# Altium integrated library TI Amplifiers and Linear Instrumentation Amplifier.IntLib: 274 symbols (part 1 of 10)
Pins are listed as number, name and electrical type; pins without a type are passive.

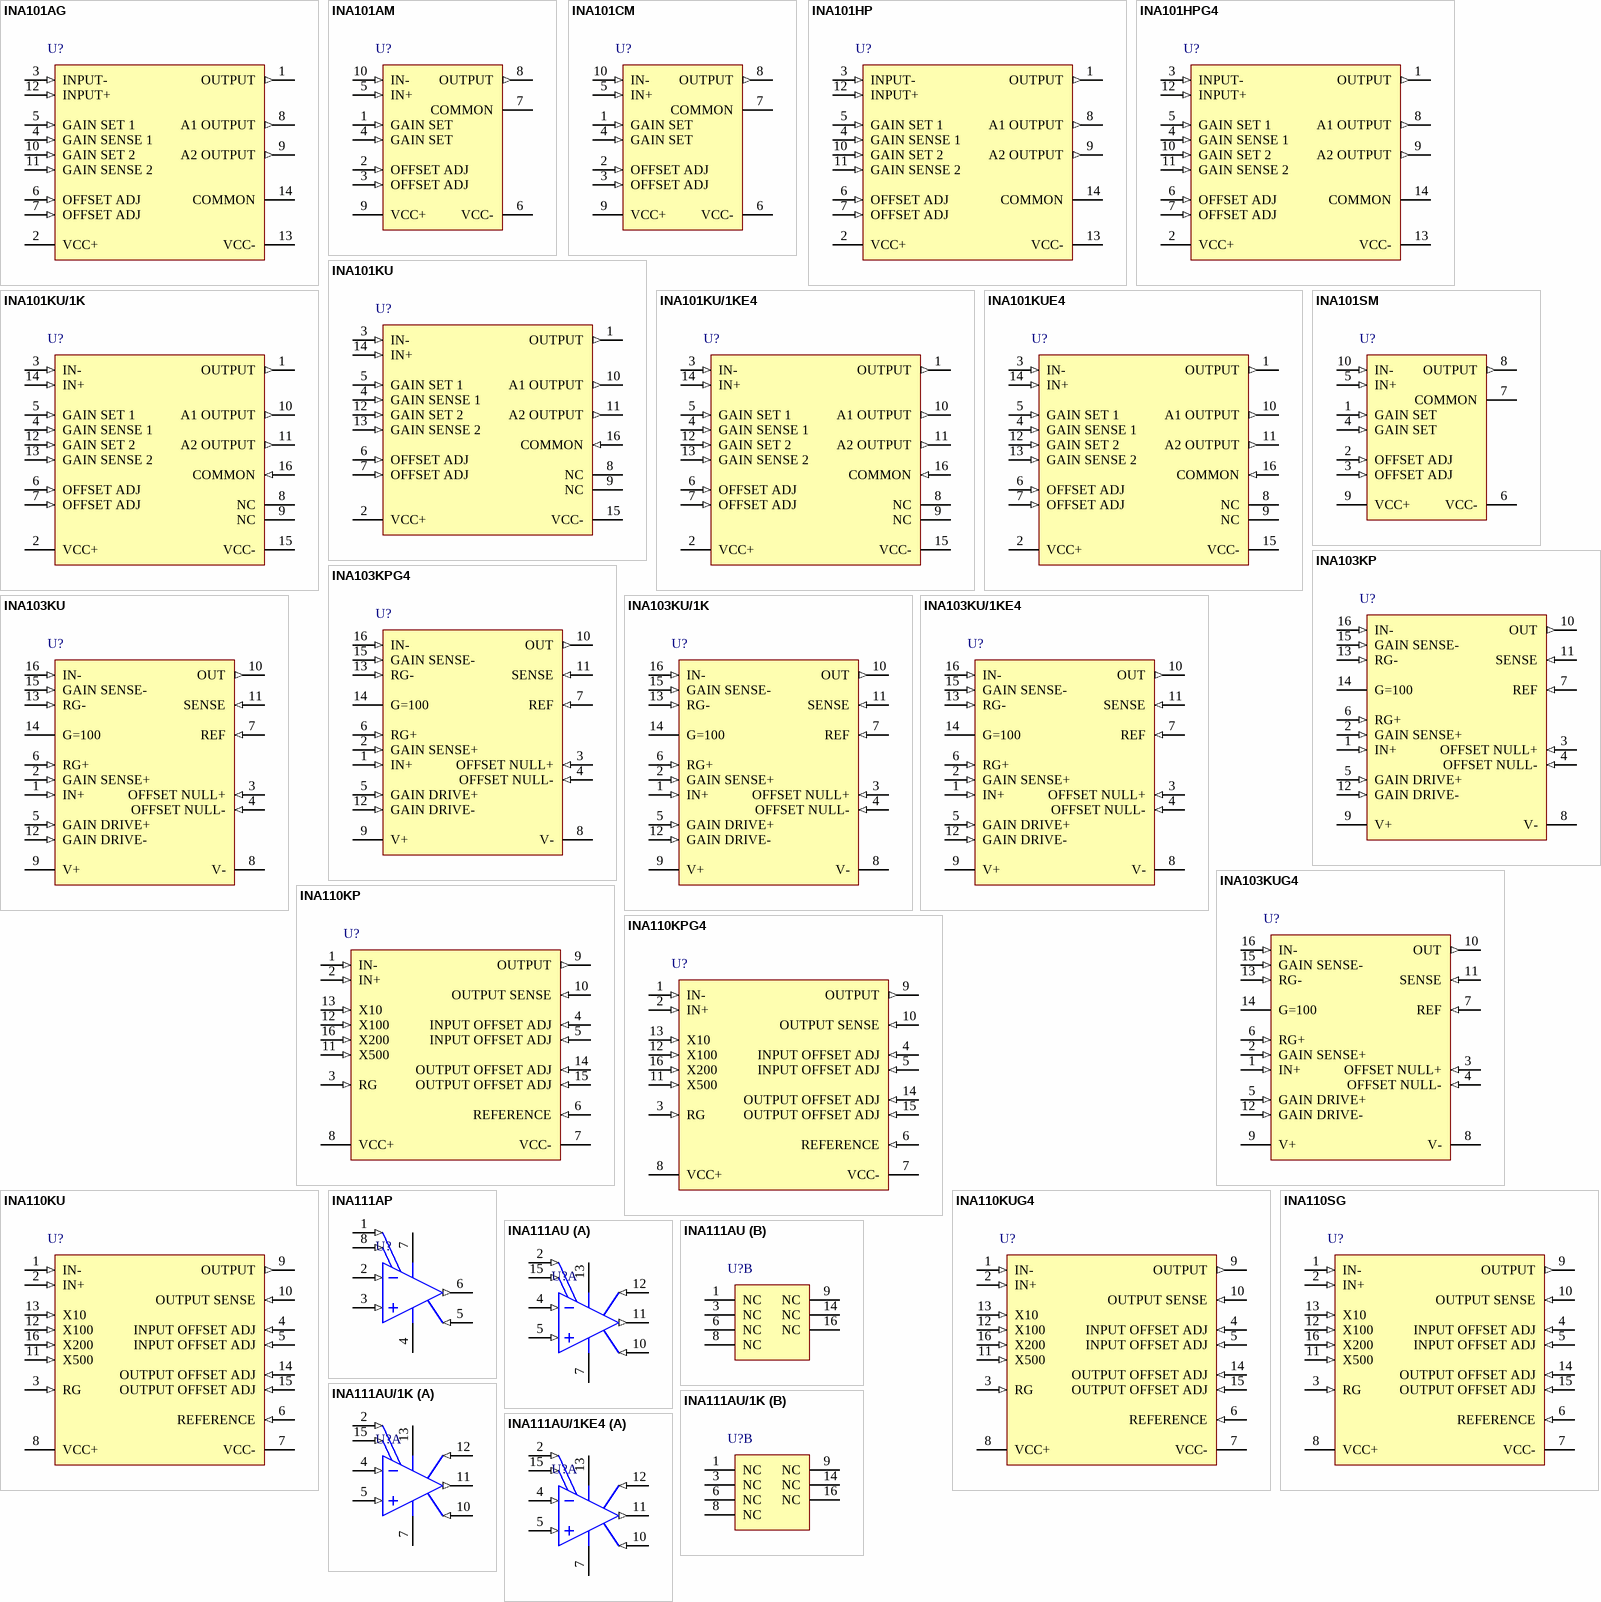
[diagram p0: symbols INA101AG to INA111AU/1KE4]

## INA101AG
designator U?
Very High Accuracy Instrumentation Amplifier, -55 to 125 degC, 14-pin DIP (JD14), Green (RoHS & no Sb/Br); Manufacturer: Texas Instruments; PartNumber: INA101AG; CMRR(Min)(dB): 106; Gain(V/V): 1 to 1000; Input Bias Current (+/-)(Max)(nA): 30; Noise at 1kHz(Typ)(nV/rt(Hz)): 13; Non-Linearity (+/-)(Max)(%): 0.005; Number of Channels: 1; Quiescent Current (+/-)(Typ)(mA): 6.7; SubFamily: Dual Supply; Vs(Max)(V): 40; Vs(Min)(V): 10; DatasheetVersion: SBOS133; PackageVersion: 4040086-3/F, 07/2003; PackageReference: JD14; PackageDescription: 14-Pin Ceramic Side-Braze Dual-In-Line, Body 18.545 x 7.49 mm, Pitch 2.54 mm; Supplier 1: Digi-Key; Supplier Part Number 1: INA101AG-ND; Supplier 2: Farnell; Supplier Part Number 2: 1459451; Supplier 3: Newark; Supplier Part Number 3: 61M6775; Supplier 4: Newark; Supplier Part Number 4: 88K1112; Supplier 5: Mouser; Supplier Part Number 5: 595-INA101AG; Eco-Plan: Green (RoHS & no Sb/Br); Mounting Technology: Through Hole; ComponentLink1Description: Manufacturer URL; ComponentLink1URL: http://www.ti.com/; ComponentLink2Description: Datasheet; ComponentLink2URL: http://www.ti.com/general/docs/lit/getliterature.tsp?genericPartNumber=INA101&fileType=pdf; ComponentLink3Description: Package Specification; ComponentLink3URL: http://www.ti.com/litv/pdf/mcdi043a
footprint TI-JD14 (DIP, 14-Leads, Body 18.55x7.2mm, Pitch 2.54mm)
pins: 1 OUTPUT (out), 2 VCC+ (power), 3 INPUT- (in), 4 GAIN SENSE 1 (in), 5 GAIN SET 1 (in), 6 OFFSET ADJ (in), 7 OFFSET ADJ (in), 8 A1 OUTPUT (out), 9 A2 OUTPUT (out), 10 GAIN SET 2 (in), 11 GAIN SENSE 2 (in), 12 INPUT+ (in), 13 VCC- (power), 14 COMMON

## INA101AM
designator U?
Very High Accuracy Instrumentation Amplifier, -55 to 125 degC, 10-pin TO-100 (LME10), Green (RoHS & no Sb/Br); Manufacturer: Texas Instruments; PartNumber: INA101AM; CMRR(Min)(dB): 106; Gain(V/V): 1 to 1000; Input Bias Current (+/-)(Max)(nA): 30; Noise at 1kHz(Typ)(nV/rt(Hz)): 13; Non-Linearity (+/-)(Max)(%): 0.005; Number of Channels: 1; Quiescent Current (+/-)(Typ)(mA): 6.7; SubFamily: Dual Supply; Vs(Max)(V): 40; Vs(Min)(V): 10; DatasheetVersion: SBOS133; PackageVersion: 4202488/A, 03/2001; PackageReference: LME10; PackageDescription: 10-Pin Metal Cylinder or Can, Diameter 8.96 mm; Supplier 1: Digi-Key; Supplier Part Number 1: INA101AM-ND; Supplier 2: Farnell; Supplier Part Number 2: 1459452; Supplier 3: Newark; Supplier Part Number 3: 61M6776; Supplier 4: Newark; Supplier Part Number 4: 88K1113; Supplier 5: Mouser; Supplier Part Number 5: 595-INA101AM; Eco-Plan: Green (RoHS & no Sb/Br); Mounting Technology: Through Hole; Code_JEDEC: MO-006/TO-100; ComponentLink1Description: Manufacturer URL; ComponentLink1URL: http://www.ti.com/; ComponentLink2Description: Datasheet; ComponentLink2URL: http://www.ti.com/general/docs/lit/getliterature.tsp?genericPartNumber=INA101&fileType=pdf; ComponentLink3Description: Package Specification; ComponentLink3URL: http://www.ti.com/litv/pdf/mmbc006
footprint TI-LME10_V (TO-CAN, 10-Leads, Diameter 8.96 mm)
pins: 1 GAIN SET (in), 2 OFFSET ADJ (in), 3 OFFSET ADJ (in), 4 GAIN SET (in), 5 IN+ (in), 6 VCC- (power), 7 COMMON, 8 OUTPUT (out), 9 VCC+ (power), 10 IN- (in)

## INA101CM
designator U?
Very High Accuracy Instrumentation Amplifier, -55 to 125 degC, 10-pin TO-100 (LME10), Green (RoHS & no Sb/Br); Manufacturer: Texas Instruments; PartNumber: INA101CM; CMRR(Min)(dB): 106; Gain(V/V): 1 to 1000; Input Bias Current (+/-)(Max)(nA): 20; Noise at 1kHz(Typ)(nV/rt(Hz)): 13; Non-Linearity (+/-)(Max)(%): 0.002; Number of Channels: 1; Quiescent Current (+/-)(Typ)(mA): 6.7; SubFamily: Dual Supply; Vs(Max)(V): 40; Vs(Min)(V): 10; DatasheetVersion: SBOS133; PackageVersion: 4202488/A, 03/2001; PackageReference: LME10; PackageDescription: 10-Pin Metal Cylinder or Can, Diameter 8.96 mm; Supplier 1: Digi-Key; Supplier Part Number 1: INA101CM-ND; Supplier 2: Farnell; Supplier Part Number 2: 1459453; Supplier 3: Newark; Supplier Part Number 3: 61M6777; Supplier 4: Newark; Supplier Part Number 4: 28C6818; Supplier 5: Mouser; Supplier Part Number 5: 595-INA101CM; Eco-Plan: Green (RoHS & no Sb/Br); Mounting Technology: Through Hole; Code_JEDEC: MO-006/TO-100; ComponentLink1Description: Manufacturer URL; ComponentLink1URL: http://www.ti.com/; ComponentLink2Description: Datasheet; ComponentLink2URL: http://www.ti.com/general/docs/lit/getliterature.tsp?genericPartNumber=INA101&fileType=pdf; ComponentLink3Description: Package Specification; ComponentLink3URL: http://www.ti.com/litv/pdf/mmbc006
footprint TI-LME10_V (TO-CAN, 10-Leads, Diameter 8.96 mm)
pins: 1 GAIN SET (in), 2 OFFSET ADJ (in), 3 OFFSET ADJ (in), 4 GAIN SET (in), 5 IN+ (in), 6 VCC- (power), 7 COMMON, 8 OUTPUT (out), 9 VCC+ (power), 10 IN- (in)

## INA101HP
designator U?
Very High Accuracy Instrumentation Amplifier, -25 to 85 degC, 14-pin DIP (N14), Green (RoHS & no Sb/Br); Manufacturer: Texas Instruments; PartNumber: INA101HP; CMRR(Min)(dB): 100; Gain(V/V): 1 to 1000; Input Bias Current (+/-)(Max)(nA): 30; Noise at 1kHz(Typ)(nV/rt(Hz)): 13; Non-Linearity (+/-)(Max)(%): 0.005; Number of Channels: 1; Quiescent Current (+/-)(Typ)(mA): 6.7; SubFamily: Dual Supply; Vs(Max)(V): 40; Vs(Min)(V): 10; DatasheetVersion: SBOS133; PackageVersion: 4040049/E, 12/2002; PackageReference: N14; PackageDescription: 14-Pin Plastic In-Line, Body 19.305 x 6.35 mm, Pitch 2.54 mm; Supplier 1: Digi-Key; Supplier Part Number 1: INA101HP-ND; Supplier 2: Farnell; Supplier Part Number 2: 1470348; Supplier 3: Newark; Supplier Part Number 3: 74K3804; Supplier 4: Mouser; Supplier Part Number 4: 595-INA101HP; Eco-Plan: Green (RoHS & no Sb/Br); Mounting Technology: Through Hole; Code_JEDEC: MS-001; ComponentLink1Description: Manufacturer URL; ComponentLink1URL: http://www.ti.com/; ComponentLink2Description: Datasheet; ComponentLink2URL: http://www.ti.com/general/docs/lit/getliterature.tsp?genericPartNumber=INA101&fileType=pdf; ComponentLink3Description: Package Specification; ComponentLink3URL: http://www.ti.com/lit/ml/mpdi002c/mpdi002c.pdf
footprint TI-N14 (DIP, 14-Leads, Body 19.7x6.6mm, Pitch 2.54mm)
pins: 1 OUTPUT (out), 2 VCC+ (power), 3 INPUT- (in), 4 GAIN SENSE 1 (in), 5 GAIN SET 1 (in), 6 OFFSET ADJ (in), 7 OFFSET ADJ (in), 8 A1 OUTPUT (out), 9 A2 OUTPUT (out), 10 GAIN SET 2 (in), 11 GAIN SENSE 2 (in), 12 INPUT+ (in), 13 VCC- (power), 14 COMMON

## INA101HPG4
designator U?
Very High Accuracy Instrumentation Amplifier, -25 to 85 degC, 14-pin DIP (N14), Green (RoHS & no Sb/Br); Manufacturer: Texas Instruments; PartNumber: INA101HPG4; CMRR(Min)(dB): 100; Gain(V/V): 1 to 1000; Input Bias Current (+/-)(Max)(nA): 30; Noise at 1kHz(Typ)(nV/rt(Hz)): 13; Non-Linearity (+/-)(Max)(%): 0.005; Number of Channels: 1; Quiescent Current (+/-)(Typ)(mA): 6.7; SubFamily: Dual Supply; Vs(Max)(V): 40; Vs(Min)(V): 10; DatasheetVersion: SBOS133; PackageVersion: 4040049/E, 12/2002; PackageReference: N14; PackageDescription: 14-Pin Plastic In-Line, Body 19.305 x 6.35 mm, Pitch 2.54 mm; Supplier 1: Digi-Key; Supplier Part Number 1: INA101HPG4-ND; Supplier 2: Newark; Supplier Part Number 2: 06M7334; Supplier 3: Mouser; Supplier Part Number 3: 595-INA101HPG4; Eco-Plan: Green (RoHS & no Sb/Br); Mounting Technology: Through Hole; Code_JEDEC: MS-001; ComponentLink1Description: Manufacturer URL; ComponentLink1URL: http://www.ti.com/; ComponentLink2Description: Datasheet; ComponentLink2URL: http://www.ti.com/general/docs/lit/getliterature.tsp?genericPartNumber=INA101&fileType=pdf; ComponentLink3Description: Package Specification; ComponentLink3URL: http://www.ti.com/lit/ml/mpdi002c/mpdi002c.pdf
footprint TI-N14 (DIP, 14-Leads, Body 19.7x6.6mm, Pitch 2.54mm)
pins: 1 OUTPUT (out), 2 VCC+ (power), 3 INPUT- (in), 4 GAIN SENSE 1 (in), 5 GAIN SET 1 (in), 6 OFFSET ADJ (in), 7 OFFSET ADJ (in), 8 A1 OUTPUT (out), 9 A2 OUTPUT (out), 10 GAIN SET 2 (in), 11 GAIN SENSE 2 (in), 12 INPUT+ (in), 13 VCC- (power), 14 COMMON

## INA101KU
designator U?
Very High Accuracy Instrumentation Amplifier, -25 to 85 degC, 16-pin SOIC (DW16), Green (RoHS & no Sb/Br); Manufacturer: Texas Instruments; PartNumber: INA101KU; CMRR(Min)(dB): 100; Gain(V/V): 1 to 1000; Input Bias Current (+/-)(Max)(nA): 30; Noise at 1kHz(Typ)(nV/rt(Hz)): 13; Non-Linearity (+/-)(Max)(%): 0.005; Number of Channels: 1; Quiescent Current (+/-)(Typ)(mA): 6.7; SubFamily: Dual Supply; Vs(Max)(V): 40; Vs(Min)(V): 10; DatasheetVersion: SBOS133; PackageVersion: 4040000-2/G, 01/2011; PackageReference: DW16; PackageDescription: 16-Pin Plastic Small Outline, Body 10.30 x 7.50 mm, Pitch 1.27 mm; Supplier 1: Digi-Key; Supplier Part Number 1: INA101KU-ND; Supplier 2: Farnell; Supplier Part Number 2: 1097437; Supplier 3: Newark; Supplier Part Number 3: 35C0473; Supplier 4: Mouser; Supplier Part Number 4: 595-INA101KU; Eco-Plan: Green (RoHS & no Sb/Br); Mounting Technology: Surface Mount; Code_JEDEC: MS-013; ComponentLink1Description: Manufacturer URL; ComponentLink1URL: http://www.ti.com/; ComponentLink2Description: Datasheet; ComponentLink2URL: http://www.ti.com/general/docs/lit/getliterature.tsp?genericPartNumber=INA101&fileType=pdf; ComponentLink3Description: Package Specification; ComponentLink3URL: http://www.ti.com/litv/pdf/msoi003g
footprint TI-DW16_N (SOIC, 16-Leads, Body 10.5x7.6mm, Pitch 1.27mm, IPC Medium Density)
footprint TI-DW16_L (SOIC, 16-Leads, Body 10.5x7.6mm, Pitch 1.27mm, IPC High Density)
footprint TI-DW16_M (SOIC, 16-Leads, Body 10.5x7.6mm, Pitch 1.27mm, IPC Low Density)
pins: 1 OUTPUT (out), 2 VCC+ (power), 3 IN- (in), 4 GAIN SENSE 1 (in), 5 GAIN SET 1 (in), 6 OFFSET ADJ (in), 7 OFFSET ADJ (in), 8 NC, 9 NC, 10 A1 OUTPUT (out), 11 A2 OUTPUT (out), 12 GAIN SET 2 (in), 13 GAIN SENSE 2 (in), 14 IN+ (in), 15 VCC- (power), 16 COMMON (in)

## INA101KU/1K
designator U?
Very High Accuracy Instrumentation Amplifier, -25 to 85 degC, 16-pin SOIC (DW16), Green (RoHS & no Sb/Br); Manufacturer: Texas Instruments; PartNumber: INA101KU/1K; CMRR(Min)(dB): 100; Gain(V/V): 1 to 1000; Input Bias Current (+/-)(Max)(nA): 30; Noise at 1kHz(Typ)(nV/rt(Hz)): 13; Non-Linearity (+/-)(Max)(%): 0.005; Number of Channels: 1; Quiescent Current (+/-)(Typ)(mA): 6.7; SubFamily: Dual Supply; Vs(Max)(V): 40; Vs(Min)(V): 10; DatasheetVersion: SBOS133; PackageVersion: 4040000-2/G, 01/2011; PackageReference: DW16; PackageDescription: 16-Pin Plastic Small Outline, Body 10.30 x 7.50 mm, Pitch 1.27 mm; Supplier 1: Digi-Key; Supplier Part Number 1: INA101KU/1K-ND; Supplier 2: Newark; Supplier Part Number 2: 74C9750; Supplier 3: Mouser; Supplier Part Number 3: 595-INA101KU/1K; Eco-Plan: Green (RoHS & no Sb/Br); Mounting Technology: Surface Mount; Code_JEDEC: MS-013; ComponentLink1Description: Manufacturer URL; ComponentLink1URL: http://www.ti.com/; ComponentLink2Description: Datasheet; ComponentLink2URL: http://www.ti.com/general/docs/lit/getliterature.tsp?genericPartNumber=INA101&fileType=pdf; ComponentLink3Description: Package Specification; ComponentLink3URL: http://www.ti.com/litv/pdf/msoi003g
footprint TI-DW16_N (SOIC, 16-Leads, Body 10.5x7.6mm, Pitch 1.27mm, IPC Medium Density)
footprint TI-DW16_L (SOIC, 16-Leads, Body 10.5x7.6mm, Pitch 1.27mm, IPC High Density)
footprint TI-DW16_M (SOIC, 16-Leads, Body 10.5x7.6mm, Pitch 1.27mm, IPC Low Density)
pins: 1 OUTPUT (out), 2 VCC+ (power), 3 IN- (in), 4 GAIN SENSE 1 (in), 5 GAIN SET 1 (in), 6 OFFSET ADJ (in), 7 OFFSET ADJ (in), 8 NC, 9 NC, 10 A1 OUTPUT (out), 11 A2 OUTPUT (out), 12 GAIN SET 2 (in), 13 GAIN SENSE 2 (in), 14 IN+ (in), 15 VCC- (power), 16 COMMON (in)

## INA101KU/1KE4
designator U?
Very High Accuracy Instrumentation Amplifier, -25 to 85 degC, 16-pin SOIC (DW16), Green (RoHS & no Sb/Br); Manufacturer: Texas Instruments; PartNumber: INA101KU/1KE4; CMRR(Min)(dB): 100; Gain(V/V): 1 to 1000; Input Bias Current (+/-)(Max)(nA): 30; Noise at 1kHz(Typ)(nV/rt(Hz)): 13; Non-Linearity (+/-)(Max)(%): 0.005; Number of Channels: 1; Quiescent Current (+/-)(Typ)(mA): 6.7; SubFamily: Dual Supply; Vs(Max)(V): 40; Vs(Min)(V): 10; DatasheetVersion: SBOS133; PackageVersion: 4040000-2/G, 01/2011; PackageReference: DW16; PackageDescription: 16-Pin Plastic Small Outline, Body 10.30 x 7.50 mm, Pitch 1.27 mm; Supplier 1: Digi-Key; Supplier Part Number 1: INA101KU/1KE4-ND; Supplier 2: Mouser; Supplier Part Number 2: 595-INA101KU/1KE4; Eco-Plan: Green (RoHS & no Sb/Br); Mounting Technology: Surface Mount; Code_JEDEC: MS-013; ComponentLink1Description: Manufacturer URL; ComponentLink1URL: http://www.ti.com/; ComponentLink2Description: Datasheet; ComponentLink2URL: http://www.ti.com/general/docs/lit/getliterature.tsp?genericPartNumber=INA101&fileType=pdf; ComponentLink3Description: Package Specification; ComponentLink3URL: http://www.ti.com/litv/pdf/msoi003g
footprint TI-DW16_N (SOIC, 16-Leads, Body 10.5x7.6mm, Pitch 1.27mm, IPC Medium Density)
footprint TI-DW16_L (SOIC, 16-Leads, Body 10.5x7.6mm, Pitch 1.27mm, IPC High Density)
footprint TI-DW16_M (SOIC, 16-Leads, Body 10.5x7.6mm, Pitch 1.27mm, IPC Low Density)
pins: 1 OUTPUT (out), 2 VCC+ (power), 3 IN- (in), 4 GAIN SENSE 1 (in), 5 GAIN SET 1 (in), 6 OFFSET ADJ (in), 7 OFFSET ADJ (in), 8 NC, 9 NC, 10 A1 OUTPUT (out), 11 A2 OUTPUT (out), 12 GAIN SET 2 (in), 13 GAIN SENSE 2 (in), 14 IN+ (in), 15 VCC- (power), 16 COMMON (in)

## INA101KUE4
designator U?
Very High Accuracy Instrumentation Amplifier, -25 to 85 degC, 16-pin SOIC (DW16), Green (RoHS & no Sb/Br); Manufacturer: Texas Instruments; PartNumber: INA101KUE4; CMRR(Min)(dB): 100; Gain(V/V): 1 to 1000; Input Bias Current (+/-)(Max)(nA): 30; Noise at 1kHz(Typ)(nV/rt(Hz)): 13; Non-Linearity (+/-)(Max)(%): 0.005; Number of Channels: 1; Quiescent Current (+/-)(Typ)(mA): 6.7; SubFamily: Dual Supply; Vs(Max)(V): 40; Vs(Min)(V): 10; DatasheetVersion: SBOS133; PackageVersion: 4040000-2/G, 01/2011; PackageReference: DW16; PackageDescription: 16-Pin Plastic Small Outline, Body 10.30 x 7.50 mm, Pitch 1.27 mm; Supplier 1: Digi-Key; Supplier Part Number 1: INA101KUE4-ND; Supplier 2: Mouser; Supplier Part Number 2: 595-INA101KUE4; Eco-Plan: Green (RoHS & no Sb/Br); Mounting Technology: Surface Mount; Code_JEDEC: MS-013; ComponentLink1Description: Manufacturer URL; ComponentLink1URL: http://www.ti.com/; ComponentLink2Description: Datasheet; ComponentLink2URL: http://www.ti.com/general/docs/lit/getliterature.tsp?genericPartNumber=INA101&fileType=pdf; ComponentLink3Description: Package Specification; ComponentLink3URL: http://www.ti.com/litv/pdf/msoi003g
footprint TI-DW16_N (SOIC, 16-Leads, Body 10.5x7.6mm, Pitch 1.27mm, IPC Medium Density)
footprint TI-DW16_L (SOIC, 16-Leads, Body 10.5x7.6mm, Pitch 1.27mm, IPC High Density)
footprint TI-DW16_M (SOIC, 16-Leads, Body 10.5x7.6mm, Pitch 1.27mm, IPC Low Density)
pins: 1 OUTPUT (out), 2 VCC+ (power), 3 IN- (in), 4 GAIN SENSE 1 (in), 5 GAIN SET 1 (in), 6 OFFSET ADJ (in), 7 OFFSET ADJ (in), 8 NC, 9 NC, 10 A1 OUTPUT (out), 11 A2 OUTPUT (out), 12 GAIN SET 2 (in), 13 GAIN SENSE 2 (in), 14 IN+ (in), 15 VCC- (power), 16 COMMON (in)

## INA101SM
designator U?
Very High Accuracy Instrumentation Amplifier, -55 to 125 degC, 10-pin TO-100 (LME10), Green (RoHS & no Sb/Br); Manufacturer: Texas Instruments; PartNumber: INA101SM; CMRR(Min)(dB): 106; Gain(V/V): 1 to 1000; Input Bias Current (+/-)(Max)(nA): 30; Noise at 1kHz(Typ)(nV/rt(Hz)): 13; Non-Linearity (+/-)(Max)(%): 0.002; Number of Channels: 1; Quiescent Current (+/-)(Typ)(mA): 6.7; SubFamily: Dual Supply; Vs(Max)(V): 40; Vs(Min)(V): 10; DatasheetVersion: SBOS133; PackageVersion: 4202488/A, 03/2001; PackageReference: LME10; PackageDescription: 10-Pin Metal Cylinder or Can, Diameter 8.96 mm; Supplier 1: Digi-Key; Supplier Part Number 1: INA101SM-ND; Supplier 2: Newark; Supplier Part Number 2: 74C9751; Supplier 3: Mouser; Supplier Part Number 3: 595-INA101SM; Eco-Plan: Green (RoHS & no Sb/Br); Mounting Technology: Through Hole; Code_JEDEC: MO-006/TO-100; ComponentLink1Description: Manufacturer URL; ComponentLink1URL: http://www.ti.com/; ComponentLink2Description: Datasheet; ComponentLink2URL: http://www.ti.com/general/docs/lit/getliterature.tsp?genericPartNumber=INA101&fileType=pdf; ComponentLink3Description: Package Specification; ComponentLink3URL: http://www.ti.com/litv/pdf/mmbc006
footprint TI-LME10_V (TO-CAN, 10-Leads, Diameter 8.96 mm)
pins: 1 GAIN SET (in), 2 OFFSET ADJ (in), 3 OFFSET ADJ (in), 4 GAIN SET (in), 5 IN+ (in), 6 VCC- (power), 7 COMMON, 8 OUTPUT (out), 9 VCC+ (power), 10 IN- (in)

## INA103KP
designator U?
Low Noise, Low Distortion Instrumentation Amplifier, -40 to 85 degC, 16-pin DIP (N16), Green (RoHS & no Sb/Br); Manufacturer: Texas Instruments; PartNumber: INA103KP; CMRR(Min)(dB): 100; Gain(V/V): 1 to 1000; Input Bias Current (+/-)(Max)(nA): 12000; Noise at 1kHz(Typ)(nV/rt(Hz)): 1; Non-Linearity (+/-)(Max)(%): 0.01; Quiescent Current (+/-)(Typ)(mA): 9; SubFamily: Single Supply; Vs(Max)(V): 50; Vs(Min)(V): 18; DatasheetVersion: SBOS003; PackageVersion: 4040049/E, 12/2002; PackageReference: N16; PackageDescription: 16-Pin Plastic In-Line, Body 19.305 x 6.35 mm, Pitch 2.54 mm; Supplier 1: Digi-Key; Supplier Part Number 1: INA103KP-ND; Supplier 2: Farnell; Supplier Part Number 2: 1212392; Supplier 3: Newark; Supplier Part Number 3: 74K3805; Supplier 4: Mouser; Supplier Part Number 4: 595-INA103KP; Eco-Plan: Green (RoHS & no Sb/Br); Mounting Technology: Through Hole; Code_JEDEC: MS-001; ComponentLink1Description: Manufacturer URL; ComponentLink1URL: http://www.ti.com/; ComponentLink2Description: Datasheet; ComponentLink2URL: http://www.ti.com/general/docs/lit/getliterature.tsp?genericPartNumber=INA103&fileType=pdf; ComponentLink3Description: Package Specification; ComponentLink3URL: http://www.ti.com/litv/pdf/mpdi002c
footprint TI-N16 (DIP, 16-Leads, Body 19.7x6.6mm, Pitch 2.54mm)
pins: 1 IN+ (in), 2 GAIN SENSE+ (in), 3 OFFSET NULL+ (in), 4 OFFSET NULL- (in), 5 GAIN DRIVE+ (in), 6 RG+ (in), 7 REF (in), 8 V- (power), 9 V+ (power), 10 OUT (out), 11 SENSE (in), 12 GAIN DRIVE- (in), 13 RG- (in), 14 G=100, 15 GAIN SENSE- (in), 16 IN- (in)

## INA103KPG4
designator U?
Low Noise, Low Distortion Instrumentation Amplifier, -40 to 85 degC, 16-pin DIP (N16), Green (RoHS & no Sb/Br); Manufacturer: Texas Instruments; PartNumber: INA103KPG4; CMRR(Min)(dB): 100; Gain(V/V): 1 to 1000; Input Bias Current (+/-)(Max)(nA): 12000; Noise at 1kHz(Typ)(nV/rt(Hz)): 1; Non-Linearity (+/-)(Max)(%): 0.01; Quiescent Current (+/-)(Typ)(mA): 9; SubFamily: Single Supply; Vs(Max)(V): 50; Vs(Min)(V): 18; DatasheetVersion: SBOS003; PackageVersion: 4040049/E, 12/2002; PackageReference: N16; PackageDescription: 16-Pin Plastic In-Line, Body 19.305 x 6.35 mm, Pitch 2.54 mm; Supplier 1: Digi-Key; Supplier Part Number 1: INA103KPG4-ND; Supplier 2: Newark; Supplier Part Number 2: 03M8165; Supplier 3: Mouser; Supplier Part Number 3: 595-INA103KPG4; Eco-Plan: Green (RoHS & no Sb/Br); Mounting Technology: Through Hole; Code_JEDEC: MS-001; ComponentLink1Description: Manufacturer URL; ComponentLink1URL: http://www.ti.com/; ComponentLink2Description: Datasheet; ComponentLink2URL: http://www.ti.com/general/docs/lit/getliterature.tsp?genericPartNumber=INA103&fileType=pdf; ComponentLink3Description: Package Specification; ComponentLink3URL: http://www.ti.com/litv/pdf/mpdi002c
footprint TI-N16 (DIP, 16-Leads, Body 19.7x6.6mm, Pitch 2.54mm)
pins: 1 IN+ (in), 2 GAIN SENSE+ (in), 3 OFFSET NULL+ (in), 4 OFFSET NULL- (in), 5 GAIN DRIVE+ (in), 6 RG+ (in), 7 REF (in), 8 V- (power), 9 V+ (power), 10 OUT (out), 11 SENSE (in), 12 GAIN DRIVE- (in), 13 RG- (in), 14 G=100, 15 GAIN SENSE- (in), 16 IN- (in)

## INA103KU
designator U?
Low Noise, Low Distortion Instrumentation Amplifier, -40 to 85 degC, 16-pin SOIC (DW16), Green (RoHS & no Sb/Br); Manufacturer: Texas Instruments; PartNumber: INA103KU; CMRR(Min)(dB): 100; Gain(V/V): 1 to 1000; Input Bias Current (+/-)(Max)(nA): 12000; Noise at 1kHz(Typ)(nV/rt(Hz)): 1; Non-Linearity (+/-)(Max)(%): 0.01; Quiescent Current (+/-)(Typ)(mA): 9; SubFamily: Single Supply; Vs(Max)(V): 50; Vs(Min)(V): 18; DatasheetVersion: SBOS003; PackageVersion: 4040000-2/G, 01/2011; PackageReference: DW16; PackageDescription: 16-Pin Plastic Small Outline, Body 10.30 x 7.50 mm, Pitch 1.27 mm; Supplier 1: Digi-Key; Supplier Part Number 1: INA103KU-ND; Supplier 2: Farnell; Supplier Part Number 2: 1212393; Supplier 3: Newark; Supplier Part Number 3: 35C1712; Supplier 4: Mouser; Supplier Part Number 4: 595-INA103KU; Eco-Plan: Green (RoHS & no Sb/Br); Mounting Technology: Surface Mount; Code_JEDEC: MS-013; ComponentLink1Description: Manufacturer URL; ComponentLink1URL: http://www.ti.com/; ComponentLink2Description: Datasheet; ComponentLink2URL: http://www.ti.com/general/docs/lit/getliterature.tsp?genericPartNumber=INA103&fileType=pdf; ComponentLink3Description: Package Specification; ComponentLink3URL: http://www.ti.com/litv/pdf/msoi003g
footprint TI-DW16_N (SOIC, 16-Leads, Body 10.5x7.6mm, Pitch 1.27mm, IPC Medium Density)
footprint TI-DW16_L (SOIC, 16-Leads, Body 10.5x7.6mm, Pitch 1.27mm, IPC High Density)
footprint TI-DW16_M (SOIC, 16-Leads, Body 10.5x7.6mm, Pitch 1.27mm, IPC Low Density)
pins: 1 IN+ (in), 2 GAIN SENSE+ (in), 3 OFFSET NULL+ (in), 4 OFFSET NULL- (in), 5 GAIN DRIVE+ (in), 6 RG+ (in), 7 REF (in), 8 V- (power), 9 V+ (power), 10 OUT (out), 11 SENSE (in), 12 GAIN DRIVE- (in), 13 RG- (in), 14 G=100, 15 GAIN SENSE- (in), 16 IN- (in)

## INA103KU/1K
designator U?
Low Noise, Low Distortion Instrumentation Amplifier, -40 to 85 degC, 16-pin SOIC (DW16), Green (RoHS & no Sb/Br); Manufacturer: Texas Instruments; PartNumber: INA103KU/1K; CMRR(Min)(dB): 100; Gain(V/V): 1 to 1000; Input Bias Current (+/-)(Max)(nA): 12000; Noise at 1kHz(Typ)(nV/rt(Hz)): 1; Non-Linearity (+/-)(Max)(%): 0.01; Quiescent Current (+/-)(Typ)(mA): 9; SubFamily: Single Supply; Vs(Max)(V): 50; Vs(Min)(V): 18; DatasheetVersion: SBOS003; PackageVersion: 4040000-2/G, 01/2011; PackageReference: DW16; PackageDescription: 16-Pin Plastic Small Outline, Body 10.30 x 7.50 mm, Pitch 1.27 mm; Supplier 1: Digi-Key; Supplier Part Number 1: INA103KU/1K-ND; Supplier 2: Newark; Supplier Part Number 2: 74C9752; Supplier 3: Mouser; Supplier Part Number 3: 595-INA103KU/1K; Eco-Plan: Green (RoHS & no Sb/Br); Mounting Technology: Surface Mount; Code_JEDEC: MS-013; ComponentLink1Description: Manufacturer URL; ComponentLink1URL: http://www.ti.com/; ComponentLink2Description: Datasheet; ComponentLink2URL: http://www.ti.com/general/docs/lit/getliterature.tsp?genericPartNumber=INA103&fileType=pdf; ComponentLink3Description: Package Specification; ComponentLink3URL: http://www.ti.com/litv/pdf/msoi003g
footprint TI-DW16_N (SOIC, 16-Leads, Body 10.5x7.6mm, Pitch 1.27mm, IPC Medium Density)
footprint TI-DW16_L (SOIC, 16-Leads, Body 10.5x7.6mm, Pitch 1.27mm, IPC High Density)
footprint TI-DW16_M (SOIC, 16-Leads, Body 10.5x7.6mm, Pitch 1.27mm, IPC Low Density)
pins: 1 IN+ (in), 2 GAIN SENSE+ (in), 3 OFFSET NULL+ (in), 4 OFFSET NULL- (in), 5 GAIN DRIVE+ (in), 6 RG+ (in), 7 REF (in), 8 V- (power), 9 V+ (power), 10 OUT (out), 11 SENSE (in), 12 GAIN DRIVE- (in), 13 RG- (in), 14 G=100, 15 GAIN SENSE- (in), 16 IN- (in)

## INA103KU/1KE4
designator U?
Low Noise, Low Distortion Instrumentation Amplifier, -40 to 85 degC, 16-pin SOIC (DW16), Green (RoHS & no Sb/Br); Manufacturer: Texas Instruments; PartNumber: INA103KU/1KE4; CMRR(Min)(dB): 100; Gain(V/V): 1 to 1000; Input Bias Current (+/-)(Max)(nA): 12000; Noise at 1kHz(Typ)(nV/rt(Hz)): 1; Non-Linearity (+/-)(Max)(%): 0.01; Quiescent Current (+/-)(Typ)(mA): 9; SubFamily: Single Supply; Vs(Max)(V): 50; Vs(Min)(V): 18; DatasheetVersion: SBOS003; PackageVersion: 4040000-2/G, 01/2011; PackageReference: DW16; PackageDescription: 16-Pin Plastic Small Outline, Body 10.30 x 7.50 mm, Pitch 1.27 mm; Supplier 1: Digi-Key; Supplier Part Number 1: INA103KU/1KE4-ND; Supplier 2: Newark; Supplier Part Number 2: 74K5326; Supplier 3: Mouser; Supplier Part Number 3: 595-INA103KU/1KE4; Eco-Plan: Green (RoHS & no Sb/Br); Mounting Technology: Surface Mount; Code_JEDEC: MS-013; ComponentLink1Description: Manufacturer URL; ComponentLink1URL: http://www.ti.com/; ComponentLink2Description: Datasheet; ComponentLink2URL: http://www.ti.com/general/docs/lit/getliterature.tsp?genericPartNumber=INA103&fileType=pdf; ComponentLink3Description: Package Specification; ComponentLink3URL: http://www.ti.com/litv/pdf/msoi003g
footprint TI-DW16_N (SOIC, 16-Leads, Body 10.5x7.6mm, Pitch 1.27mm, IPC Medium Density)
footprint TI-DW16_L (SOIC, 16-Leads, Body 10.5x7.6mm, Pitch 1.27mm, IPC High Density)
footprint TI-DW16_M (SOIC, 16-Leads, Body 10.5x7.6mm, Pitch 1.27mm, IPC Low Density)
pins: 1 IN+ (in), 2 GAIN SENSE+ (in), 3 OFFSET NULL+ (in), 4 OFFSET NULL- (in), 5 GAIN DRIVE+ (in), 6 RG+ (in), 7 REF (in), 8 V- (power), 9 V+ (power), 10 OUT (out), 11 SENSE (in), 12 GAIN DRIVE- (in), 13 RG- (in), 14 G=100, 15 GAIN SENSE- (in), 16 IN- (in)

## INA103KUG4
designator U?
Low Noise, Low Distortion Instrumentation Amplifier, -40 to 85 degC, 16-pin SOIC (DW16), Green (RoHS & no Sb/Br); Manufacturer: Texas Instruments; PartNumber: INA103KUG4; CMRR(Min)(dB): 100; Gain(V/V): 1 to 1000; Input Bias Current (+/-)(Max)(nA): 12000; Noise at 1kHz(Typ)(nV/rt(Hz)): 1; Non-Linearity (+/-)(Max)(%): 0.01; Quiescent Current (+/-)(Typ)(mA): 9; SubFamily: Single Supply; Vs(Max)(V): 50; Vs(Min)(V): 18; DatasheetVersion: SBOS003; PackageVersion: 4040000-2/G, 01/2011; PackageReference: DW16; PackageDescription: 16-Pin Plastic Small Outline, Body 10.30 x 7.50 mm, Pitch 1.27 mm; Supplier 1: Digi-Key; Supplier Part Number 1: INA103KUG4-ND; Supplier 2: Newark; Supplier Part Number 2: 41M3307; Supplier 3: Mouser; Supplier Part Number 3: 595-INA103KUG4; Eco-Plan: Green (RoHS & no Sb/Br); Mounting Technology: Surface Mount; Code_JEDEC: MS-013; ComponentLink1Description: Manufacturer URL; ComponentLink1URL: http://www.ti.com/; ComponentLink2Description: Datasheet; ComponentLink2URL: http://www.ti.com/general/docs/lit/getliterature.tsp?genericPartNumber=INA103&fileType=pdf; ComponentLink3Description: Package Specification; ComponentLink3URL: http://www.ti.com/litv/pdf/msoi003g
footprint TI-DW16_N (SOIC, 16-Leads, Body 10.5x7.6mm, Pitch 1.27mm, IPC Medium Density)
footprint TI-DW16_L (SOIC, 16-Leads, Body 10.5x7.6mm, Pitch 1.27mm, IPC High Density)
footprint TI-DW16_M (SOIC, 16-Leads, Body 10.5x7.6mm, Pitch 1.27mm, IPC Low Density)
pins: 1 IN+ (in), 2 GAIN SENSE+ (in), 3 OFFSET NULL+ (in), 4 OFFSET NULL- (in), 5 GAIN DRIVE+ (in), 6 RG+ (in), 7 REF (in), 8 V- (power), 9 V+ (power), 10 OUT (out), 11 SENSE (in), 12 GAIN DRIVE- (in), 13 RG- (in), 14 G=100, 15 GAIN SENSE- (in), 16 IN- (in)

## INA110KP
designator U?
Fast-Settling FET-Input Very High Accuracy Instrumentation Amplifier, -25 to 85 degC, 16-pin DIP (N16), Green (RoHS & no Sb/Br); Manufacturer: Texas Instruments; PartNumber: INA110KP; CMRR(Min)(dB): 100; Gain(V/V): 1 to 800; Input Bias Current (+/-)(Max)(nA): 0.1; Input Offset (+/-)(Max)(uV): 500; Input Offset Drift (+/-)(Max)(uV/Degrees Celsius): 5; Non-Linearity (+/-)(Max)(%): 0.01; Number of Channels: 1; Quiescent Current (+/-)(Typ)(mA): 3; SubFamily: Dual Supply; Vs(Max)(V): 36; Vs(Min)(V): 12; DatasheetVersion: SBOS147A; PackageVersion: 4040049/E, 12/2002; PackageReference: N16; PackageDescription: 16-Pin Plastic In-Line, Body 19.305 x 6.35 mm, Pitch 2.54 mm; Supplier 1: Digi-Key; Supplier Part Number 1: INA110KP-ND; Supplier 2: Farnell; Supplier Part Number 2: 2323255; Supplier 3: Newark; Supplier Part Number 3: 74K3807; Supplier 4: Mouser; Supplier Part Number 4: 595-INA110KP; Eco-Plan: Green (RoHS & no Sb/Br); Mounting Technology: Through Hole; Code_JEDEC: MS-001; ComponentLink1Description: Manufacturer URL; ComponentLink1URL: http://www.ti.com/; ComponentLink2Description: Datasheet; ComponentLink2URL: http://www.ti.com/general/docs/lit/getliterature.tsp?genericPartNumber=INA110&fileType=pdf; ComponentLink3Description: Package Specification; ComponentLink3URL: http://www.ti.com/litv/pdf/mpdi002c
footprint TI-N16 (DIP, 16-Leads, Body 19.7x6.6mm, Pitch 2.54mm)
pins: 1 IN- (in), 2 IN+ (in), 3 RG (in), 4 INPUT OFFSET ADJ (in), 5 INPUT OFFSET ADJ (in), 6 REFERENCE (in), 7 VCC- (power), 8 VCC+ (power), 9 OUTPUT (out), 10 OUTPUT SENSE (in), 11 X500 (in), 12 X100 (in), 13 X10 (in), 14 OUTPUT OFFSET ADJ (in), 15 OUTPUT OFFSET ADJ (in), 16 X200 (in)

## INA110KPG4
designator U?
Fast-Settling FET-Input Very High Accuracy Instrumentation Amplifier, -25 to 85 degC, 16-pin DIP (N16), Green (RoHS & no Sb/Br); Manufacturer: Texas Instruments; PartNumber: INA110KPG4; CMRR(Min)(dB): 100; Gain(V/V): 1 to 800; Input Bias Current (+/-)(Max)(nA): 0.1; Input Offset (+/-)(Max)(uV): 500; Input Offset Drift (+/-)(Max)(uV/Degrees Celsius): 5; Non-Linearity (+/-)(Max)(%): 0.01; Number of Channels: 1; Quiescent Current (+/-)(Typ)(mA): 3; SubFamily: Dual Supply; Vs(Max)(V): 36; Vs(Min)(V): 12; DatasheetVersion: SBOS147A; PackageVersion: 4040049/E, 12/2002; PackageReference: N16; PackageDescription: 16-Pin Plastic In-Line, Body 19.305 x 6.35 mm, Pitch 2.54 mm; Supplier 1: Digi-Key; Supplier Part Number 1: INA110KPG4-ND; Supplier 2: Newark; Supplier Part Number 2: 20M5178; Supplier 3: Mouser; Supplier Part Number 3: 595-INA110KPG4; Eco-Plan: Green (RoHS & no Sb/Br); Mounting Technology: Through Hole; Code_JEDEC: MS-001; ComponentLink1Description: Manufacturer URL; ComponentLink1URL: http://www.ti.com/; ComponentLink2Description: Datasheet; ComponentLink2URL: http://www.ti.com/general/docs/lit/getliterature.tsp?genericPartNumber=INA110&fileType=pdf; ComponentLink3Description: Package Specification; ComponentLink3URL: http://www.ti.com/litv/pdf/mpdi002c
footprint TI-N16 (DIP, 16-Leads, Body 19.7x6.6mm, Pitch 2.54mm)
pins: 1 IN- (in), 2 IN+ (in), 3 RG (in), 4 INPUT OFFSET ADJ (in), 5 INPUT OFFSET ADJ (in), 6 REFERENCE (in), 7 VCC- (power), 8 VCC+ (power), 9 OUTPUT (out), 10 OUTPUT SENSE (in), 11 X500 (in), 12 X100 (in), 13 X10 (in), 14 OUTPUT OFFSET ADJ (in), 15 OUTPUT OFFSET ADJ (in), 16 X200 (in)

## INA110KU
designator U?
Fast-Settling FET-Input Very High Accuracy Instrumentation Amplifier, -25 to 85 degC, 16-pin SOIC (DW16), Green (RoHS & no Sb/Br); Manufacturer: Texas Instruments; PartNumber: INA110KU; CMRR(Min)(dB): 100; Gain(V/V): 1 to 800; Input Bias Current (+/-)(Max)(nA): 0.1; Input Offset (+/-)(Max)(uV): 500; Input Offset Drift (+/-)(Max)(uV/Degrees Celsius): 5; Non-Linearity (+/-)(Max)(%): 0.01; Number of Channels: 1; Quiescent Current (+/-)(Typ)(mA): 3; SubFamily: Dual Supply; Vs(Max)(V): 36; Vs(Min)(V): 12; DatasheetVersion: SBOS147A; PackageVersion: 4040000-2/G, 01/2011; PackageReference: DW16; PackageDescription: 16-Pin Plastic Small Outline, Body 10.30 x 7.50 mm, Pitch 1.27 mm; Supplier 1: Digi-Key; Supplier Part Number 1: INA110KU-ND; Supplier 2: Farnell; Supplier Part Number 2: 2323256; Supplier 3: Newark; Supplier Part Number 3: 96W2900; Supplier 4: Newark; Supplier Part Number 4: 04M4539; Supplier 5: Mouser; Supplier Part Number 5: 595-INA110KU; Eco-Plan: Green (RoHS & no Sb/Br); Mounting Technology: Surface Mount; Code_JEDEC: MS-013; ComponentLink1Description: Manufacturer URL; ComponentLink1URL: http://www.ti.com/; ComponentLink2Description: Datasheet; ComponentLink2URL: http://www.ti.com/general/docs/lit/getliterature.tsp?genericPartNumber=INA110&fileType=pdf; ComponentLink3Description: Package Specification; ComponentLink3URL: http://www.ti.com/litv/pdf/msoi003g
footprint TI-DW16_N (SOIC, 16-Leads, Body 10.5x7.6mm, Pitch 1.27mm, IPC Medium Density)
footprint TI-DW16_L (SOIC, 16-Leads, Body 10.5x7.6mm, Pitch 1.27mm, IPC High Density)
footprint TI-DW16_M (SOIC, 16-Leads, Body 10.5x7.6mm, Pitch 1.27mm, IPC Low Density)
pins: 1 IN- (in), 2 IN+ (in), 3 RG (in), 4 INPUT OFFSET ADJ (in), 5 INPUT OFFSET ADJ (in), 6 REFERENCE (in), 7 VCC- (power), 8 VCC+ (power), 9 OUTPUT (out), 10 OUTPUT SENSE (in), 11 X500 (in), 12 X100 (in), 13 X10 (in), 14 OUTPUT OFFSET ADJ (in), 15 OUTPUT OFFSET ADJ (in), 16 X200 (in)

## INA110KUG4
designator U?
Fast-Settling FET-Input Very High Accuracy Instrumentation Amplifier, -25 to 85 degC, 16-pin SOIC (DW16), Green (RoHS & no Sb/Br); Manufacturer: Texas Instruments; PartNumber: INA110KUG4; CMRR(Min)(dB): 100; Gain(V/V): 1 to 800; Input Bias Current (+/-)(Max)(nA): 0.1; Input Offset (+/-)(Max)(uV): 500; Input Offset Drift (+/-)(Max)(uV/Degrees Celsius): 5; Non-Linearity (+/-)(Max)(%): 0.01; Number of Channels: 1; Quiescent Current (+/-)(Typ)(mA): 3; SubFamily: Dual Supply; Vs(Max)(V): 36; Vs(Min)(V): 12; DatasheetVersion: SBOS147A; PackageVersion: 4040000-2/G, 01/2011; PackageReference: DW16; PackageDescription: 16-Pin Plastic Small Outline, Body 10.30 x 7.50 mm, Pitch 1.27 mm; Supplier 1: Digi-Key; Supplier Part Number 1: INA110KUG4-ND; Supplier 2: Newark; Supplier Part Number 2: 26M9605; Supplier 3: Mouser; Supplier Part Number 3: 595-INA110KUG4; Eco-Plan: Green (RoHS & no Sb/Br); Mounting Technology: Surface Mount; Code_JEDEC: MS-013; ComponentLink1Description: Manufacturer URL; ComponentLink1URL: http://www.ti.com/; ComponentLink2Description: Datasheet; ComponentLink2URL: http://www.ti.com/general/docs/lit/getliterature.tsp?genericPartNumber=INA110&fileType=pdf; ComponentLink3Description: Package Specification; ComponentLink3URL: http://www.ti.com/litv/pdf/msoi003g
footprint TI-DW16_N (SOIC, 16-Leads, Body 10.5x7.6mm, Pitch 1.27mm, IPC Medium Density)
footprint TI-DW16_L (SOIC, 16-Leads, Body 10.5x7.6mm, Pitch 1.27mm, IPC High Density)
footprint TI-DW16_M (SOIC, 16-Leads, Body 10.5x7.6mm, Pitch 1.27mm, IPC Low Density)
pins: 1 IN- (in), 2 IN+ (in), 3 RG (in), 4 INPUT OFFSET ADJ (in), 5 INPUT OFFSET ADJ (in), 6 REFERENCE (in), 7 VCC- (power), 8 VCC+ (power), 9 OUTPUT (out), 10 OUTPUT SENSE (in), 11 X500 (in), 12 X100 (in), 13 X10 (in), 14 OUTPUT OFFSET ADJ (in), 15 OUTPUT OFFSET ADJ (in), 16 X200 (in)

## INA110SG
designator U?
Fast-Settling FET-Input Very High Accuracy Instrumentation Amplifier, -55 to 125 degC, 16-pin DIP (JD16), Green (RoHS & no Sb/Br); Manufacturer: Texas Instruments; PartNumber: INA110SG; CMRR(Min)(dB): 106; Gain(V/V): 1 to 800; Input Bias Current (+/-)(Max)(nA): 0.05; Input Offset (+/-)(Max)(uV): 250; Input Offset Drift (+/-)(Max)(uV/Degrees Celsius): 2; Non-Linearity (+/-)(Max)(%): 0.005; Number of Channels: 1; Quiescent Current (+/-)(Typ)(mA): 3; SubFamily: Dual Supply; Vs(Max)(V): 36; Vs(Min)(V): 12; DatasheetVersion: SBOS147A; PackageVersion: 4040086-2/F, 07/2003; PackageReference: JD16; PackageDescription: 16-Pin Ceramic, Metal In-Line, Body 20.57 x 7.37 mm, Pitch 2.54 mm; Supplier 1: Digi-Key; Supplier Part Number 1: INA110SG-ND; Supplier 2: Newark; Supplier Part Number 2: 74C9756; Supplier 3: Mouser; Supplier Part Number 3: 595-INA110SG; Eco-Plan: Green (RoHS & no Sb/Br); Mounting Technology: Through Hole; ComponentLink1Description: Manufacturer URL; ComponentLink1URL: http://www.ti.com/; ComponentLink2Description: Datasheet; ComponentLink2URL: http://www.ti.com/general/docs/lit/getliterature.tsp?genericPartNumber=INA110&fileType=pdf; ComponentLink3Description: Package Specification; ComponentLink3URL: http://www.ti.com/lit/ml/mpbg307d/mpbg307d.pdf
footprint TI-JD16 (DIP, 16-Leads, Body 20.55x7.2mm, Pitch 2.54mm)
pins: 1 IN- (in), 2 IN+ (in), 3 RG (in), 4 INPUT OFFSET ADJ (in), 5 INPUT OFFSET ADJ (in), 6 REFERENCE (in), 7 VCC- (power), 8 VCC+ (power), 9 OUTPUT (out), 10 OUTPUT SENSE (in), 11 X500 (in), 12 X100 (in), 13 X10 (in), 14 OUTPUT OFFSET ADJ (in), 15 OUTPUT OFFSET ADJ (in), 16 X200 (in)

## INA111AP
designator U?
High Speed FET-Input Instrumentation Amplifier, -40 to 85 degC, 8-pin DIP (P8), Green (RoHS & no Sb/Br); Manufacturer: Texas Instruments; PartNumber: INA111AP; CMRR(Min)(dB): 100; Gain(V/V): 1 to 10000; Input Bias Current (+/-)(Max)(nA): 0.02; Input Offset (+/-)(Max)(uV): 1000; Input Offset Drift (+/-)(Max)(uV/Degrees Celsius): 10; Non-Linearity (+/-)(Max)(%): 0.01; Number of Channels: 1; Quiescent Current (+/-)(Typ)(mA): 3.3; SubFamily: Dual Supply; Vs(Max)(V): 36; Vs(Min)(V): 12; DatasheetVersion: SBOS015; PackageVersion: 4040082/E, 04/2010; PackageReference: P8; PackageDescription: 8-Pin Plastic In-Line, Body 9.59 x 6.35 mm, Pitch 2.54 mm; Supplier 1: Digi-Key; Supplier Part Number 1: INA111AP-ND; Supplier 2: Newark; Supplier Part Number 2: 74K3808; Supplier 3: Mouser; Supplier Part Number 3: 595-INA111AP; Eco-Plan: Green (RoHS & no Sb/Br); Noise at 1kHz(Typ)(nV/rt(Hz)): 10; Mounting Technology: Through Hole; Code_JEDEC: MS-001; ComponentLink1Description: Manufacturer URL; ComponentLink1URL: http://www.ti.com/; ComponentLink2Description: Datasheet; ComponentLink2URL: http://www.ti.com/general/docs/lit/getliterature.tsp?genericPartNumber=INA111&fileType=pdf; ComponentLink3Description: Package Specification; ComponentLink3URL: http://www.ti.com/litv/pdf/mpdi001b
footprint TI-P8 (DIP, 8-Leads, Body 10.15x6.6mm, Pitch 2.54mm)
pins: 1 RG (in), 2 VIN- (in), 3 VIN+ (in), 4 V- (power), 5 REF (in), 6 VO (out), 7 V+ (power), 8 RG (in)

## INA111AU
designator U?
High Speed FET-Input Instrumentation Amplifier, -40 to 85 degC, 16-pin SOIC (DW16), Green (RoHS & no Sb/Br); Manufacturer: Texas Instruments; PartNumber: INA111AU; CMRR(Min)(dB): 100; Gain(V/V): 1 to 10000; Input Bias Current (+/-)(Max)(nA): 0.02; Input Offset (+/-)(Max)(uV): 1000; Input Offset Drift (+/-)(Max)(uV/Degrees Celsius): 10; Non-Linearity (+/-)(Max)(%): 0.01; Number of Channels: 1; Quiescent Current (+/-)(Typ)(mA): 3.3; SubFamily: Dual Supply; Vs(Max)(V): 36; Vs(Min)(V): 12; DatasheetVersion: SBOS015; PackageVersion: 4040000-2/G, 01/2011; PackageReference: DW16; PackageDescription: 16-Pin Plastic Small Outline, Body 10.30 x 7.50 mm, Pitch 1.27 mm; Supplier 1: Digi-Key; Supplier Part Number 1: INA111AU-ND; Supplier 2: Newark; Supplier Part Number 2: 35C0479; Supplier 3: Mouser; Supplier Part Number 3: 595-INA111AU; Eco-Plan: Green (RoHS & no Sb/Br); Noise at 1kHz(Typ)(nV/rt(Hz)): 10; Mounting Technology: Surface Mount; Code_JEDEC: MS-013; ComponentLink1Description: Manufacturer URL; ComponentLink1URL: http://www.ti.com/; ComponentLink2Description: Datasheet; ComponentLink2URL: http://www.ti.com/general/docs/lit/getliterature.tsp?genericPartNumber=INA111&fileType=pdf; ComponentLink3Description: Package Specification; ComponentLink3URL: http://www.ti.com/litv/pdf/msoi003g
footprint TI-DW16_N (SOIC, 16-Leads, Body 10.5x7.6mm, Pitch 1.27mm, IPC Medium Density)
footprint TI-DW16_L (SOIC, 16-Leads, Body 10.5x7.6mm, Pitch 1.27mm, IPC High Density)
footprint TI-DW16_M (SOIC, 16-Leads, Body 10.5x7.6mm, Pitch 1.27mm, IPC Low Density)
part A pins: 2 RG (in), 4 VIN- (in), 5 VIN+ (in), 7 V- (power), 10 REF (in), 11 VO (out), 12 FEEDBACK (in), 13 V+ (power), 15 RG (in)
part B pins: 1 NC, 3 NC, 6 NC, 8 NC, 9 NC, 14 NC, 16 NC

## INA111AU/1K
designator U?
High Speed FET-Input Instrumentation Amplifier, -40 to 85 degC, 16-pin SOIC (DW16), Green (RoHS & no Sb/Br); Manufacturer: Texas Instruments; PartNumber: INA111AU/1K; CMRR(Min)(dB): 100; Gain(V/V): 1 to 10000; Input Bias Current (+/-)(Max)(nA): 0.02; Input Offset (+/-)(Max)(uV): 1000; Input Offset Drift (+/-)(Max)(uV/Degrees Celsius): 10; Non-Linearity (+/-)(Max)(%): 0.01; Number of Channels: 1; Quiescent Current (+/-)(Typ)(mA): 3.3; SubFamily: Dual Supply; Vs(Max)(V): 36; Vs(Min)(V): 12; DatasheetVersion: SBOS015; PackageVersion: 4040000-2/G, 01/2011; PackageReference: DW16; PackageDescription: 16-Pin Plastic Small Outline, Body 10.30 x 7.50 mm, Pitch 1.27 mm; Supplier 1: Digi-Key; Supplier Part Number 1: INA111AU/1K-ND; Supplier 2: Mouser; Supplier Part Number 2: 595-INA111AU/1K; Eco-Plan: Green (RoHS & no Sb/Br); Noise at 1kHz(Typ)(nV/rt(Hz)): 10; Mounting Technology: Surface Mount; Code_JEDEC: MS-013; ComponentLink1Description: Manufacturer URL; ComponentLink1URL: http://www.ti.com/; ComponentLink2Description: Datasheet; ComponentLink2URL: http://www.ti.com/general/docs/lit/getliterature.tsp?genericPartNumber=INA111&fileType=pdf; ComponentLink3Description: Package Specification; ComponentLink3URL: http://www.ti.com/litv/pdf/msoi003g
footprint TI-DW16_N (SOIC, 16-Leads, Body 10.5x7.6mm, Pitch 1.27mm, IPC Medium Density)
footprint TI-DW16_L (SOIC, 16-Leads, Body 10.5x7.6mm, Pitch 1.27mm, IPC High Density)
footprint TI-DW16_M (SOIC, 16-Leads, Body 10.5x7.6mm, Pitch 1.27mm, IPC Low Density)
part A pins: 2 RG (in), 4 VIN- (in), 5 VIN+ (in), 7 V- (power), 10 REF (in), 11 VO (out), 12 FEEDBACK (in), 13 V+ (power), 15 RG (in)
part B pins: 1 NC, 3 NC, 6 NC, 8 NC, 9 NC, 14 NC, 16 NC

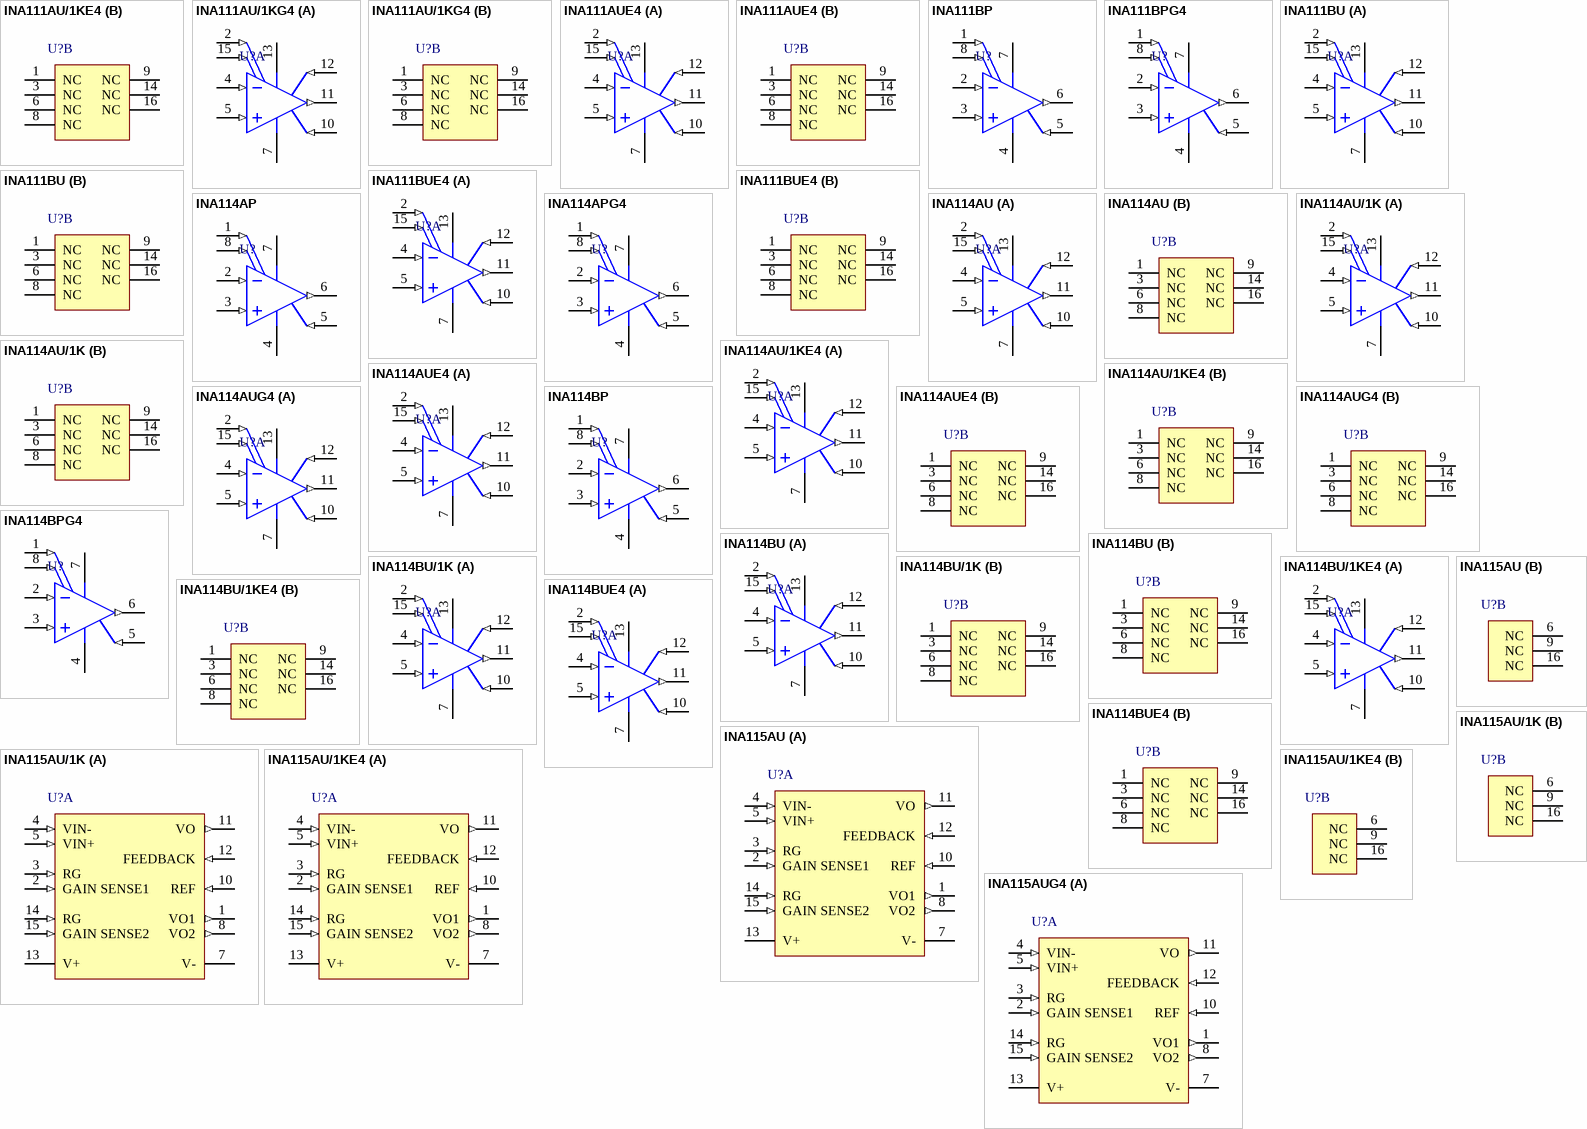
[diagram p1: symbols INA111AU/1KE4 to INA115AUG4]

## INA111AU/1KE4
designator U?
High Speed FET-Input Instrumentation Amplifier, -40 to 85 degC, 16-pin SOIC (DW16), Green (RoHS & no Sb/Br); Manufacturer: Texas Instruments; PartNumber: INA111AU/1KE4; CMRR(Min)(dB): 100; Gain(V/V): 1 to 10000; Input Bias Current (+/-)(Max)(nA): 0.02; Input Offset (+/-)(Max)(uV): 1000; Input Offset Drift (+/-)(Max)(uV/Degrees Celsius): 10; Non-Linearity (+/-)(Max)(%): 0.01; Number of Channels: 1; Quiescent Current (+/-)(Typ)(mA): 3.3; SubFamily: Dual Supply; Vs(Max)(V): 36; Vs(Min)(V): 12; DatasheetVersion: SBOS015; PackageVersion: 4040000-2/G, 01/2011; PackageReference: DW16; PackageDescription: 16-Pin Plastic Small Outline, Body 10.30 x 7.50 mm, Pitch 1.27 mm; Supplier 1: Digi-Key; Supplier Part Number 1: INA111AU/1KE4-ND; Supplier 2: Mouser; Supplier Part Number 2: 595-INA111AU/1KE4; Eco-Plan: Green (RoHS & no Sb/Br); Noise at 1kHz(Typ)(nV/rt(Hz)): 10; Mounting Technology: Surface Mount; Code_JEDEC: MS-013; ComponentLink1Description: Manufacturer URL; ComponentLink1URL: http://www.ti.com/; ComponentLink2Description: Datasheet; ComponentLink2URL: http://www.ti.com/general/docs/lit/getliterature.tsp?genericPartNumber=INA111&fileType=pdf; ComponentLink3Description: Package Specification; ComponentLink3URL: http://www.ti.com/litv/pdf/msoi003g
footprint TI-DW16_N (SOIC, 16-Leads, Body 10.5x7.6mm, Pitch 1.27mm, IPC Medium Density)
footprint TI-DW16_L (SOIC, 16-Leads, Body 10.5x7.6mm, Pitch 1.27mm, IPC High Density)
footprint TI-DW16_M (SOIC, 16-Leads, Body 10.5x7.6mm, Pitch 1.27mm, IPC Low Density)
part A pins: 2 RG (in), 4 VIN- (in), 5 VIN+ (in), 7 V- (power), 10 REF (in), 11 VO (out), 12 FEEDBACK (in), 13 V+ (power), 15 RG (in)
part B pins: 1 NC, 3 NC, 6 NC, 8 NC, 9 NC, 14 NC, 16 NC

## INA111AU/1KG4
designator U?
High Speed FET-Input Instrumentation Amplifier, -40 to 85 degC, 16-pin SOIC (DW16), Green (RoHS & no Sb/Br); Manufacturer: Texas Instruments; PartNumber: INA111AU/1KG4; CMRR(Min)(dB): 100; Gain(V/V): 1 to 10000; Input Bias Current (+/-)(Max)(nA): 0.02; Input Offset (+/-)(Max)(uV): 1000; Input Offset Drift (+/-)(Max)(uV/Degrees Celsius): 10; Non-Linearity (+/-)(Max)(%): 0.01; Number of Channels: 1; Quiescent Current (+/-)(Typ)(mA): 3.3; SubFamily: Dual Supply; Vs(Max)(V): 36; Vs(Min)(V): 12; DatasheetVersion: SBOS015; PackageVersion: 4040000-2/G, 01/2011; PackageReference: DW16; PackageDescription: 16-Pin Plastic Small Outline, Body 10.30 x 7.50 mm, Pitch 1.27 mm; Supplier 1: Digi-Key; Supplier Part Number 1: INA111AU/1KG4-ND; Supplier 2: Mouser; Supplier Part Number 2: 595-INA111AU/1KG4; Eco-Plan: Green (RoHS & no Sb/Br); Noise at 1kHz(Typ)(nV/rt(Hz)): 10; Mounting Technology: Surface Mount; Code_JEDEC: MS-013; ComponentLink1Description: Manufacturer URL; ComponentLink1URL: http://www.ti.com/; ComponentLink2Description: Datasheet; ComponentLink2URL: http://www.ti.com/general/docs/lit/getliterature.tsp?genericPartNumber=INA111&fileType=pdf; ComponentLink3Description: Package Specification; ComponentLink3URL: http://www.ti.com/litv/pdf/msoi003g
footprint TI-DW16_N (SOIC, 16-Leads, Body 10.5x7.6mm, Pitch 1.27mm, IPC Medium Density)
footprint TI-DW16_L (SOIC, 16-Leads, Body 10.5x7.6mm, Pitch 1.27mm, IPC High Density)
footprint TI-DW16_M (SOIC, 16-Leads, Body 10.5x7.6mm, Pitch 1.27mm, IPC Low Density)
part A pins: 2 RG (in), 4 VIN- (in), 5 VIN+ (in), 7 V- (power), 10 REF (in), 11 VO (out), 12 FEEDBACK (in), 13 V+ (power), 15 RG (in)
part B pins: 1 NC, 3 NC, 6 NC, 8 NC, 9 NC, 14 NC, 16 NC

## INA111AUE4
designator U?
High Speed FET-Input Instrumentation Amplifier, -40 to 85 degC, 16-pin SOIC (DW16), Green (RoHS & no Sb/Br); Manufacturer: Texas Instruments; PartNumber: INA111AUE4; CMRR(Min)(dB): 100; Gain(V/V): 1 to 10000; Input Bias Current (+/-)(Max)(nA): 0.02; Input Offset (+/-)(Max)(uV): 1000; Input Offset Drift (+/-)(Max)(uV/Degrees Celsius): 10; Non-Linearity (+/-)(Max)(%): 0.01; Number of Channels: 1; Quiescent Current (+/-)(Typ)(mA): 3.3; SubFamily: Dual Supply; Vs(Max)(V): 36; Vs(Min)(V): 12; DatasheetVersion: SBOS015; PackageVersion: 4040000-2/G, 01/2011; PackageReference: DW16; PackageDescription: 16-Pin Plastic Small Outline, Body 10.30 x 7.50 mm, Pitch 1.27 mm; Supplier 1: Digi-Key; Supplier Part Number 1: INA111AUE4-ND; Supplier 2: Farnell; Supplier Part Number 2: 1219424; Supplier 3: Newark; Supplier Part Number 3: 05M0437; Supplier 4: Mouser; Supplier Part Number 4: 595-INA111AUE4; Eco-Plan: Green (RoHS & no Sb/Br); Noise at 1kHz(Typ)(nV/rt(Hz)): 10; Mounting Technology: Surface Mount; Code_JEDEC: MS-013; ComponentLink1Description: Manufacturer URL; ComponentLink1URL: http://www.ti.com/; ComponentLink2Description: Datasheet; ComponentLink2URL: http://www.ti.com/general/docs/lit/getliterature.tsp?genericPartNumber=INA111&fileType=pdf; ComponentLink3Description: Package Specification; ComponentLink3URL: http://www.ti.com/litv/pdf/msoi003g
footprint TI-DW16_N (SOIC, 16-Leads, Body 10.5x7.6mm, Pitch 1.27mm, IPC Medium Density)
footprint TI-DW16_L (SOIC, 16-Leads, Body 10.5x7.6mm, Pitch 1.27mm, IPC High Density)
footprint TI-DW16_M (SOIC, 16-Leads, Body 10.5x7.6mm, Pitch 1.27mm, IPC Low Density)
part A pins: 2 RG (in), 4 VIN- (in), 5 VIN+ (in), 7 V- (power), 10 REF (in), 11 VO (out), 12 FEEDBACK (in), 13 V+ (power), 15 RG (in)
part B pins: 1 NC, 3 NC, 6 NC, 8 NC, 9 NC, 14 NC, 16 NC

## INA111BP
designator U?
High Speed FET-Input Instrumentation Amplifier, -40 to 85 degC, 8-pin DIP (P8), Green (RoHS & no Sb/Br); Manufacturer: Texas Instruments; PartNumber: INA111BP; CMRR(Min)(dB): 106; Gain(V/V): 1 to 10000; Input Bias Current (+/-)(Max)(nA): 0.02; Input Offset (+/-)(Max)(uV): 500; Input Offset Drift (+/-)(Max)(uV/Degrees Celsius): 5; Noise at 1kHz(Typ)(nV/rt(Hz)): 10; Non-Linearity (+/-)(Max)(%): 0.005; Number of Channels: 1; Quiescent Current (+/-)(Typ)(mA): 3.3; SubFamily: Dual Supply; Vs(Max)(V): 36; Vs(Min)(V): 12; DatasheetVersion: SBOS015; PackageVersion: 4040082/E, 04/2010; PackageReference: P8; PackageDescription: 8-Pin Plastic In-Line, Body 9.59 x 6.35 mm, Pitch 2.54 mm; Supplier 1: Digi-Key; Supplier Part Number 1: INA111BP-ND; Supplier 2: Farnell; Supplier Part Number 2: 1212397; Supplier 3: Newark; Supplier Part Number 3: 01M7967; Supplier 4: Newark; Supplier Part Number 4: 27C4351; Supplier 5: Newark; Supplier Part Number 5: 95W4105; Supplier 6: Mouser; Supplier Part Number 6: 595-INA111BP; Eco-Plan: Green (RoHS & no Sb/Br); Mounting Technology: Through Hole; Code_JEDEC: MS-001; ComponentLink1Description: Manufacturer URL; ComponentLink1URL: http://www.ti.com/; ComponentLink2Description: Datasheet; ComponentLink2URL: http://www.ti.com/general/docs/lit/getliterature.tsp?genericPartNumber=INA111&fileType=pdf; ComponentLink3Description: Package Specification; ComponentLink3URL: http://www.ti.com/litv/pdf/mpdi001b
footprint TI-P8 (DIP, 8-Leads, Body 10.15x6.6mm, Pitch 2.54mm)
pins: 1 RG (in), 2 VIN- (in), 3 VIN+ (in), 4 V- (power), 5 REF (in), 6 VO (out), 7 V+ (power), 8 RG (in)

## INA111BPG4
designator U?
High Speed FET-Input Instrumentation Amplifier, -40 to 85 degC, 8-pin DIP (P8), Green (RoHS & no Sb/Br); Manufacturer: Texas Instruments; PartNumber: INA111BPG4; CMRR(Min)(dB): 106; Gain(V/V): 1 to 10000; Input Bias Current (+/-)(Max)(nA): 0.02; Input Offset (+/-)(Max)(uV): 500; Input Offset Drift (+/-)(Max)(uV/Degrees Celsius): 5; Noise at 1kHz(Typ)(nV/rt(Hz)): 10; Non-Linearity (+/-)(Max)(%): 0.005; Number of Channels: 1; Quiescent Current (+/-)(Typ)(mA): 3.3; SubFamily: Dual Supply; Vs(Max)(V): 36; Vs(Min)(V): 12; DatasheetVersion: SBOS015; PackageVersion: 4040082/E, 04/2010; PackageReference: P8; PackageDescription: 8-Pin Plastic In-Line, Body 9.59 x 6.35 mm, Pitch 2.54 mm; Supplier 1: Digi-Key; Supplier Part Number 1: INA111BPG4-ND; Supplier 2: Mouser; Supplier Part Number 2: 595-INA111BPG4; Eco-Plan: Green (RoHS & no Sb/Br); Mounting Technology: Through Hole; Code_JEDEC: MS-001; ComponentLink1Description: Manufacturer URL; ComponentLink1URL: http://www.ti.com/; ComponentLink2Description: Datasheet; ComponentLink2URL: http://www.ti.com/general/docs/lit/getliterature.tsp?genericPartNumber=INA111&fileType=pdf; ComponentLink3Description: Package Specification; ComponentLink3URL: http://www.ti.com/litv/pdf/mpdi001b
footprint TI-P8 (DIP, 8-Leads, Body 10.15x6.6mm, Pitch 2.54mm)
pins: 1 RG (in), 2 VIN- (in), 3 VIN+ (in), 4 V- (power), 5 REF (in), 6 VO (out), 7 V+ (power), 8 RG (in)